# EAGLE library part MK20DX256VLH7 (library appfruits)
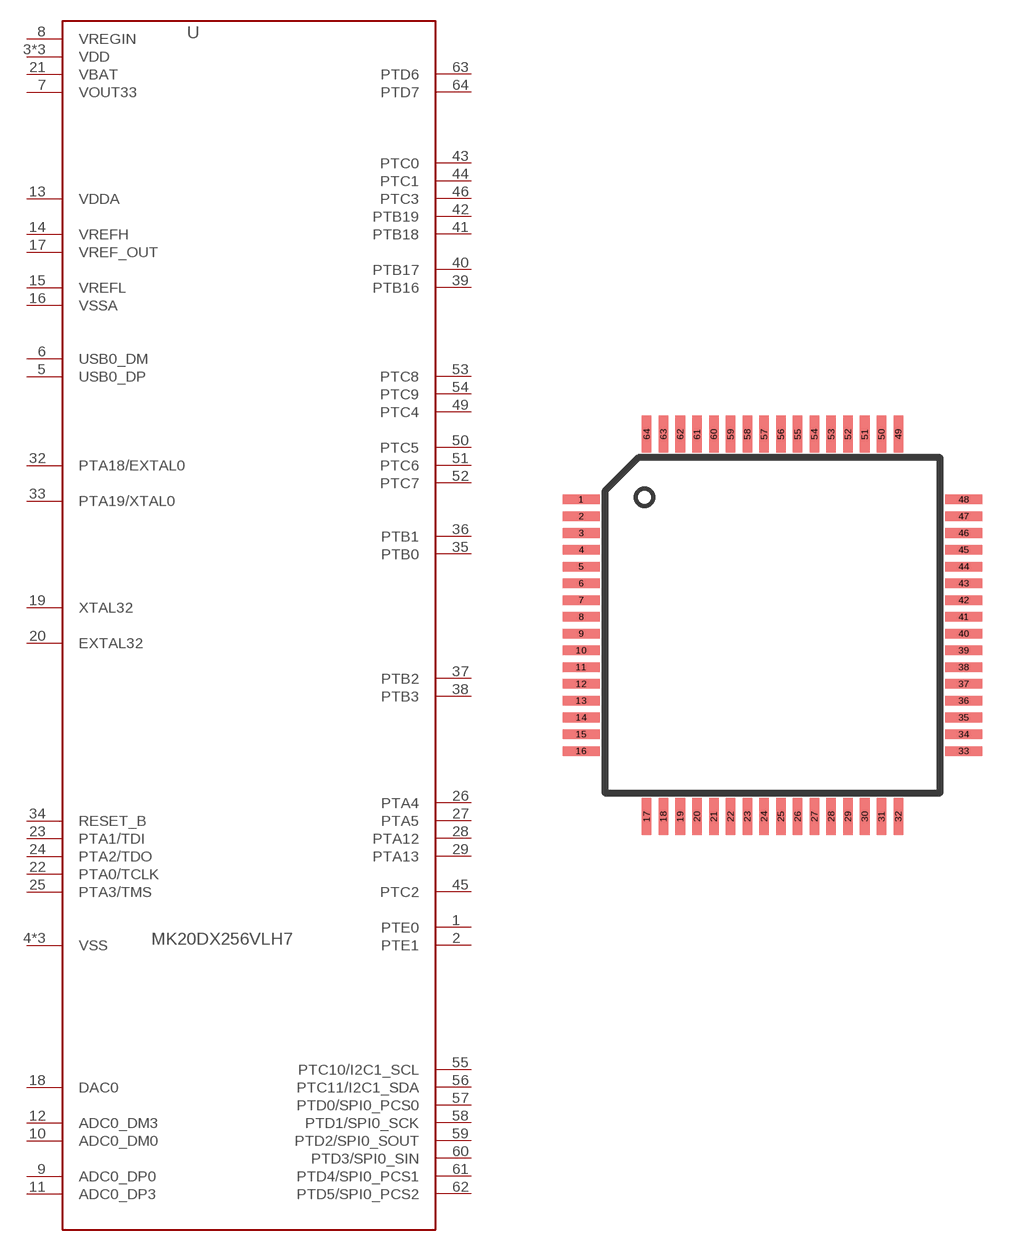
[diagram p0: symbol with the pads of MK20DX256VLH7; footprint MK20DX256VLH7]

Designator prefix U

## MK20DX256VLH7  [MK20DX256VLH7]
1  PTE0
2  PTE1
3  VDD
4  VSS
5  USB0_DP
6  USB0_DM
7  VOUT33
8  VREGIN
9  ADC0_DP0
10  ADC0_DM0
11  ADC0_DP3
12  ADC0_DM3
13  VDDA
14  VREFH
15  VREFL
16  VSSA
17  VREF_OUT
18  DAC0
19  XTAL32
20  EXTAL32
21  VBAT
22  PTA0/TCLK
23  PTA1/TDI
24  PTA2/TDO
25  PTA3/TMS
26  PTA4
27  PTA5
28  PTA12
29  PTA13
30  VDD
31  VSS
32  PTA18/EXTAL0
33  PTA19/XTAL0
34  RESET_B
35  PTB0
36  PTB1
37  PTB2
38  PTB3
39  PTB16
40  PTB17
41  PTB18
42  PTB19
43  PTC0
44  PTC1
45  PTC2
46  PTC3
47  VSS
48  VDD
49  PTC4
50  PTC5
51  PTC6
52  PTC7
53  PTC8
54  PTC9
55  PTC10/I2C1_SCL
56  PTC11/I2C1_SDA
57  PTD0/SPI0_PCS0
58  PTD1/SPI0_SCK
59  PTD2/SPI0_SOUT
60  PTD3/SPI0_SIN
61  PTD4/SPI0_PCS1
62  PTD5/SPI0_PCS2
63  PTD6
64  PTD7

## Footprint MK20DX256VLH7 (pad centres in mm)
smd 1.1 x 0.285: 1 -5.7,3.75; 2 -5.7,3.25; 3 -5.7,2.75; 4 -5.7,2.25; 5 -5.7,1.75; 6 -5.7,1.25; 7 -5.7,0.75; 8 -5.7,0.25; 9 -5.7,-0.25; 10 -5.7,-0.75; 11 -5.7,-1.25; 12 -5.7,-1.75; 13 -5.7,-2.25; 14 -5.7,-2.75; 15 -5.7,-3.25; 16 -5.7,-3.75; 33 5.7,-3.75; 34 5.7,-3.25; 35 5.7,-2.75; 36 5.7,-2.25; 37 5.7,-1.75; 38 5.7,-1.25; 39 5.7,-0.75; 40 5.7,-0.25; 41 5.7,0.25; 42 5.7,0.75; 43 5.7,1.25; 44 5.7,1.75; 45 5.7,2.25; 46 5.7,2.75; 47 5.7,3.25; 48 5.7,3.75
smd 0.285 x 1.1: 17 -3.75,-5.7; 18 -3.25,-5.7; 19 -2.75,-5.7; 20 -2.25,-5.7; 21 -1.75,-5.7; 22 -1.25,-5.7; 23 -0.75,-5.7; 24 -0.25,-5.7; 25 0.25,-5.7; 26 0.75,-5.7; 27 1.25,-5.7; 28 1.75,-5.7; 29 2.25,-5.7; 30 2.75,-5.7; 31 3.25,-5.7; 32 3.75,-5.7; 49 3.75,5.7; 50 3.25,5.7; 51 2.75,5.7; 52 2.25,5.7; 53 1.75,5.7; 54 1.25,5.7; 55 0.75,5.7; 56 0.25,5.7; 57 -0.25,5.7; 58 -0.75,5.7; 59 -1.25,5.7; 60 -1.75,5.7; 61 -2.25,5.7; 62 -2.75,5.7; 63 -3.25,5.7; 64 -3.75,5.7